# Altium footprint library amplifier.PcbLib: 49 footprints (part 3 of 4)
Each footprint in its own frame and in the unit in brackets; x right, y up, seen from the top. Pads: shape width x height; smd on the part's side, far side on the other; paste and mask are expansions set on the pad; w line width, h text height; cw(c..) or ccw(c..) is an arc to the next point about the centre after c.
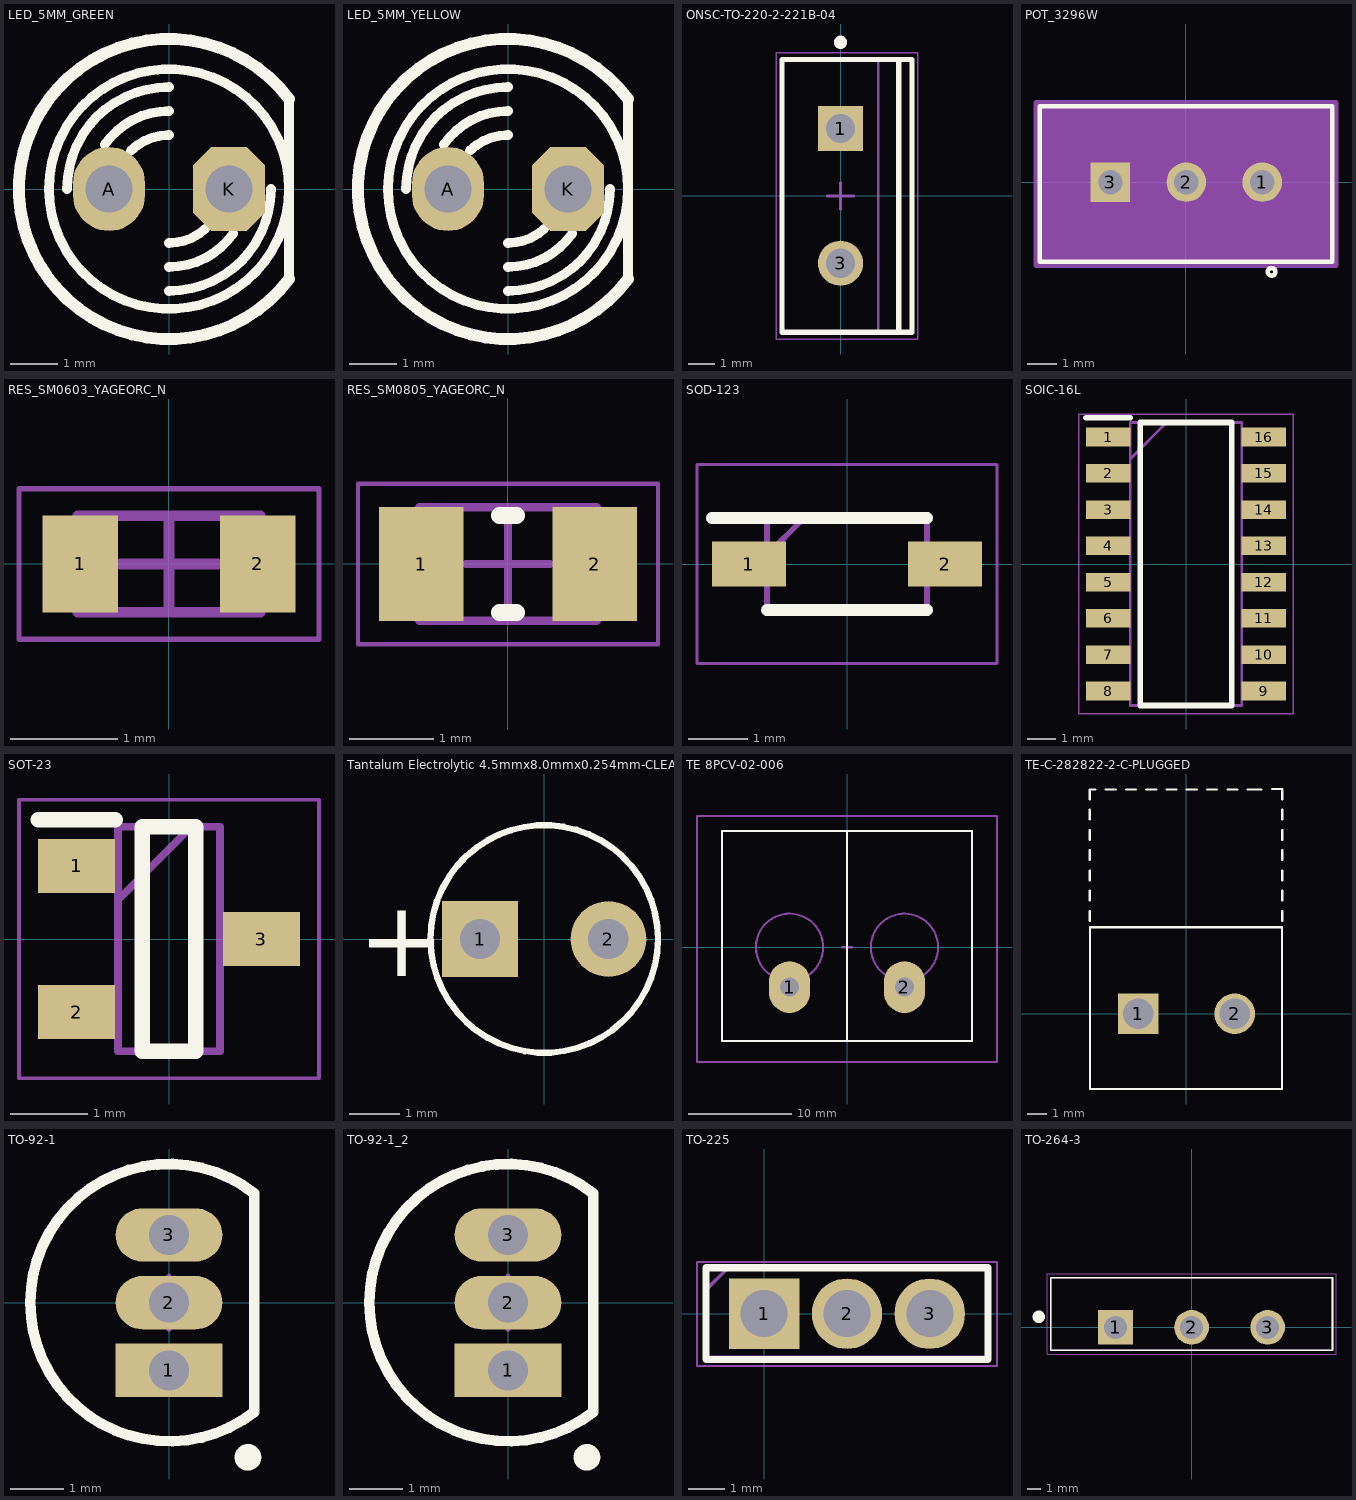
[diagram p2: the footprints below, top view; thin cyan lines are the x and y axes]

## LED_5MM_GREEN [mil]
pads (2):
  oval 60x70 hole 39.37: A(-50,0)
  oct 60x70 hole 39.37: K(50,0)
Top Overlay:
  circle w8: c0,0 r100
  lines w8: -85,0 cw(c0,0) 0,85 ; -53.4,37.06 cw(c0,0) 0,65 ; -31.82,31.82 cw(c0,0) 0,45 ; 0,-85 ccw(c0,0) 85,0 ; 0,-65 ccw(c0,0) 53.4,-37.06 ; 0,-45 ccw(c0,0) 30.32,-33.25 ; 100,-75 100,75
  lines w10: 100,-75 cw(c0,0) 100,75
3D body "LED-5mm-GREEN.step": height 352.16, standoff -255.91, extent -122.27,-119 94.27,117.22

## LED_5MM_YELLOW [mil]
pads (2):
  oval 60x70 hole 39.37: A(-50,0)
  oct 60x70 hole 39.37: K(50,0)
Top Overlay:
  circle w8: c0,0 r100
  lines w8: -85,0 cw(c0,0) 0,85 ; -53.4,37.06 cw(c0,0) 0,65 ; -31.82,31.82 cw(c0,0) 0,45 ; 0,-85 ccw(c0,0) 85,0 ; 0,-65 ccw(c0,0) 53.4,-37.06 ; 0,-45 ccw(c0,0) 30.32,-33.25 ; 100,-75 100,75
  lines w10: 100,-75 cw(c0,0) 100,75
3D body "LED-5mm-YELLOW.step": height 352.16, standoff -255.91, extent -118.11,-118.11 98.43,118.11

## ONSC-TO-220-2-221B-04 [mm]
pads (2):
  rect 1.7x1.7 hole 1.1: 1(0,2.54)
  round 1.7 hole 1.1: 3(0,-2.54)
Top Overlay:
  circle w0.25: c0,5.8 r0.125
  lines w0.2: 2.195,-5.15 2.195,5.15 ; -2.205,-5.15 2.695,-5.15 2.695,5.15 -2.205,5.15 -2.205,-5.15
Mechanical 13:
  lines w0.1: 1.42,-5.15 1.42,5.15 ; -2.18,-5.15 -2.18,5.15 2.67,5.15 2.67,-5.15 -2.18,-5.15
Mechanical 15:
  lines w0.05: -2.43,-5.4 -2.43,5.4 2.92,5.4 2.92,-5.4 -2.43,-5.4
  lines w0.1: -0.5,0 0.5,0 ; 0,-0.5 0,0.5
3D body: height 2.79, standoff 0, extent -0.25,1.875 0.25,3.205
3D body: height 0, standoff -1.6, extent -0.25,2.13 0.25,2.95
3D body: height 2.79, standoff 0, extent -0.25,-3.205 0.25,-1.875
3D body: height 0, standoff -1.6, extent -0.25,-2.95 0.25,-2.13
3D body: height 12.8, standoff 2.79, extent -2.18,-5.15 2.67,5.15
3D body: height 14.33, standoff 12.8, extent 1.42,-4.975 2.67,4.975
3D body: height 14.37, standoff 14.33, extent 1.42,0.376 2.67,4.975
3D body: height 14.37, standoff 14.33, extent 1.42,-4.975 2.67,-0.376
3D body: height 18.18, standoff 18.14, extent 1.42,0.376 2.67,4.975
3D body: height 18.18, standoff 18.14, extent 1.42,-4.975 2.67,-0.376
3D body: height 14.48, standoff 14.36, extent 1.42,0.737 2.67,4.975
3D body: height 14.48, standoff 14.36, extent 1.42,-4.975 2.67,-0.737
3D body: height 18.14, standoff 18.03, extent 1.42,0.737 2.67,4.975
3D body: height 18.14, standoff 18.03, extent 1.42,-4.975 2.67,-0.737
3D body: height 14.65, standoff 14.47, extent 1.42,1.069 2.67,4.975
3D body: height 14.65, standoff 14.47, extent 1.42,-4.975 2.67,-1.069
3D body: height 18.03, standoff 17.85, extent 1.42,1.069 2.67,4.975
3D body: height 18.03, standoff 17.85, extent 1.42,-4.975 2.67,-1.069
3D body: height 14.89, standoff 14.65, extent 1.42,1.361 2.67,4.975
3D body: height 14.89, standoff 14.65, extent 1.42,-4.975 2.67,-1.361
3D body: height 17.86, standoff 17.61, extent 1.42,1.361 2.67,4.975
3D body: height 17.86, standoff 17.61, extent 1.42,-4.975 2.67,-1.361
3D body: height 15.19, standoff 14.89, extent 1.42,1.601 2.67,4.975
3D body: height 15.19, standoff 14.89, extent 1.42,-4.975 2.67,-1.601
3D body: height 17.62, standoff 17.32, extent 1.42,1.601 2.67,4.975
3D body: height 17.62, standoff 17.32, extent 1.42,-4.975 2.67,-1.601
3D body: height 15.52, standoff 15.18, extent 1.42,1.778 2.67,4.975
3D body: height 15.52, standoff 15.18, extent 1.42,-4.975 2.67,-1.778
3D body: height 17.32, standoff 16.99, extent 1.42,1.778 2.67,4.975
3D body: height 17.32, standoff 16.99, extent 1.42,-4.975 2.67,-1.778
3D body: height 15.88, standoff 15.51, extent 1.42,1.888 2.67,4.975
3D body: height 15.88, standoff 15.51, extent 1.42,-4.975 2.67,-1.888
3D body: height 16.99, standoff 16.63, extent 1.42,1.888 2.67,4.975
3D body: height 16.99, standoff 16.63, extent 1.42,-4.975 2.67,-1.888
3D body: height 16.25, standoff 15.87, extent 1.42,1.925 2.67,4.975
3D body: height 16.25, standoff 15.87, extent 1.42,-4.975 2.67,-1.925
3D body: height 16.63, standoff 16.25, extent 1.42,1.925 2.67,4.975
3D body: height 16.63, standoff 16.25, extent 1.42,-4.975 2.67,-1.925
3D body: height 19.05, standoff 18.18, extent 1.42,-4.975 2.67,4.975

## POT_3296W [mil]
pads (3):
  round 52 / inner round 60 / far side round 52 hole 32: 1(101,0) 2(1,0)
  rect 52x52 / inner round 60 / far side rect 52x52 hole 32: 3(-99,0)
Top Overlay:
  circle w6: c113.19,-118.11 r5
  lines w6: -192,-105 -192,100 193,100 193,-105 -192,-105
Mechanical 13:
  circle w0: c-137,45 r40
  circle w0: c112.5,-80 r5
Mechanical 15:
  region: 198,-110 -197,-110 -197,105 198,105
  lines w6: -197,-110 198,-110 198,105 -197,105 -197,-110
3D body "POT_3296W-colored.stp": height 453.7, standoff -253.3, extent -187.5,-96.5 187.5,93.5
3D body: height 0, standoff 0, extent 100,-5 110,5

## RES_SM0603_YAGEORC_N [mm]
pads (2):
  rect 0.7x0.9 smd: 1(-0.827,0) 2(0.827,0)
Mechanical 13:
  lines w0.1: -0.85,-0.45 0.85,-0.45 0.85,0.45 -0.85,0.45 -0.85,-0.45
Mechanical 15:
  lines w0.05: -1.397,-0.7 1.397,-0.7 1.397,0.7 -1.397,0.7 -1.397,-0.7
  lines w0.1: -0.45,0 0.45,0 ; 0,-0.45 0,0.45
3D body "RESC-0603.stp": height 0.55, standoff 0, extent -0.85,-0.45 0.85,0.45

## RES_SM0805_YAGEORC_N [mm]
pads (2):
  rect 1x1.35 smd: 1(-1.027,0) 2(1.027,0)
Top Overlay:
  lines w0.2: -0.1,-0.575 0.1,-0.575 ; -0.1,0.575 0.1,0.575
Mechanical 13:
  lines w0.1: -1.05,-0.675 -1.05,0.675 1.05,0.675 1.05,-0.675 -1.05,-0.675
Mechanical 15:
  lines w0.05: -1.778,-0.95 -1.778,0.95 1.778,0.95 1.778,-0.95 -1.778,-0.95
  lines w0.1: -0.5,0 0.5,0 ; 0,-0.5 0,0.5
3D body: height 0.55, standoff 0, extent 0,0 0,0
3D body "RESC-0805.stp": height 0.6, standoff 0, extent -1.05,-0.675 1.05,0.675

## SOD-123 [mm]
pads (2):
  rect 1.25x0.75 smd: 1(-1.65,0) 2(1.65,0)
Top Overlay:
  lines w0.2: -2.275,0.775 1.35,0.775 ; -1.35,-0.775 1.35,-0.775
Mechanical 13:
  lines w0.1: -1.35,0.15 -0.725,0.775 ; -1.35,-0.775 1.35,-0.775 1.35,0.775 -1.35,0.775 -1.35,-0.775
Mechanical 15:
  lines w0.05: -2.525,-1.675 2.525,-1.675 2.525,1.675 -2.525,1.675 -2.525,-1.675
3D body "SOD-123.step": height 1.2, standoff 0, extent -1.875,-0.85 1.875,0.85

## SOIC-16L [mm]
pads (16):
  rect 1.55x0.65 smd: 1(-2.725,4.445) 2(-2.725,3.175) 3(-2.725,1.905) 4(-2.725,0.635) 5(-2.725,-0.635) 6(-2.725,-1.905) 7(-2.725,-3.175) 8(-2.725,-4.445) 9(2.725,-4.445) 10(2.725,-3.175) 11(2.725,-1.905) 12(2.725,-0.635) 13(2.725,0.635) 14(2.725,1.905) 15(2.725,3.175) 16(2.725,4.445)
Top Overlay:
  lines w0.2: -3.5,5.12 -1.95,5.12 ; -1.6,-4.95 -1.6,4.95 1.6,4.95 1.6,-4.95 -1.6,-4.95
Mechanical 13:
  lines w0.1: -1.95,3.68 -0.68,4.95 ; -1.95,-4.95 -1.95,4.95 1.95,4.95 1.95,-4.95 -1.95,-4.95
Mechanical 15:
  lines w0.05: -3.75,-5.25 -3.75,5.25 3.75,5.25 3.75,-5.25 -3.75,-5.25
3D body "MMPQ6700.stp": height 1.75, standoff 0, extent -3,-4.95 3,4.95

## SOT-23 [mm]
pads (3):
  rect 1x0.7 smd: 1(-1.2,0.95) 2(-1.2,-0.95) 3(1.2,0)
Top Overlay:
  lines w0.2: -1.7,1.55 -0.7,1.55 ; -0.35,-1.46 -0.35,1.46 0.35,1.46 0.35,-1.46 -0.35,-1.46
Mechanical 13:
  lines w0.1: -0.662,0.51 0.288,1.46 ; -0.662,-1.46 -0.662,1.46 0.662,1.46 0.662,-1.46 -0.662,-1.46
Mechanical 15:
  lines w0.05: -1.95,-1.81 -1.95,1.81 1.95,1.81 1.95,-1.81 -1.95,-1.81
3D body "SOT-23-3.stp": height 1.1, standoff -0.08, extent -1.418,-1.5 1.418,1.5

## Tantalum Electrolytic 4.5mmx8.0mmx0.254mm-CLEAN [mm]
pads (2):
  rect 1.5x1.5 hole 0.8: 1(-1.27,0)
  round 1.5 hole 0.8: 2(1.27,0)
Top Overlay:
  lines w0.127: 2.25,0 cw(c0,0) 2.25,0.005
  text "+" at -3.683,-0.737 h1.5
3D body "User Library-CAP_TANT_0_1.step": height 8.5, standoff -2.5, extent -2.174,-2.174 2.174,2.174

## TE 8PCV-02-006 [mm]
pads (2):
  oval 4x5 hole 1.829: 1(-5.555,-3.85) 2(5.555,-3.85)
Top Overlay:
  lines w0.2: 0,-9.05 0,11.25 ; 12.1,11.225 12.1,-9.05 -12.075,-9.05 -12.075,11.25 12.1,11.25
Mechanical 1:
  circle w0.2: c5.555,0 r3.25
  circle w0.2: c-5.555,0 r3.25
  lines w0.2: -12.075,-9.05 -12.075,11.225 -10.074,11.225 -6.162,11.225 -4.205,11.225 12.075,11.225 12.075,-9.05 -6.38,-9.05 -12.075,-9.05
Mechanical 15:
  lines w0.2: -0.5,0 0.5,0 ; 0,-0.5 0,0.5 ; -14.5,-11.075 -14.5,12.675 14.5,12.675 14.5,-11.075 -14.5,-11.075
3D body "8PCV-02-006-colored.stp": height 19.58, standoff -4.68, extent -12.004,-9.06 12.075,11.26

## TE-C-282822-2-C-PLUGGED [mm]
pads (2):
  rect 2.1x2.1 hole 1.6: 1(-2.5,0)
  round 2.1 hole 1.6: 2(2.5,0)
Top Overlay:
  lines w0.127: -5.025,4.825 -5.025,5.325 ; -5.025,5.875 -5.025,6.375 ; -5.025,6.925 -5.025,7.425 ; -5.025,7.975 -5.025,8.475 ; -5.025,9.025 -5.025,9.525 ; -5.025,10.075 -5.025,10.575 ; -5.025,11.125 -5.025,11.625 -4.725,11.625 ; -4.175,11.625 -3.675,11.625 ; -3.125,11.625 -2.625,11.625 ; -2.075,11.625 -1.575,11.625 ; -1.025,11.625 -0.525,11.625 ; 0.025,11.625 0.525,11.625 ; 1.075,11.625 1.575,11.625 ; 2.125,11.625 2.625,11.625 ; 3.175,11.625 3.675,11.625 ; 3.375,11.625 3.875,11.625 ; 4.45,11.65 4.975,11.65 4.975,11.125 ; 4.975,4.825 4.975,5.325 ; 4.975,5.875 4.975,6.375 ; 4.975,6.925 4.975,7.425 ; 4.975,7.975 4.975,8.475 ; 4.975,9.025 4.975,9.525 ; 4.975,10.075 4.975,10.575 ; -5,-3.9 -5,3.075 -5,4.475 4.95,4.475 4.95,-3.9 -5,-3.9
3D body "c-796640-2-e-3d-colored.stp": height 18.43, standoff 0.03, extent -5.025,-3.875 4.975,11.625
3D body "c-282822-2-c-3d-colored.stp": height 12.03, standoff -3.47, extent -5.025,-3.875 4.975,4.475

## TO-92-1 [mm]
pads (3):
  rect 2x1 hole 0.75: 1(0,-1.27)
  oval 2x1 hole 0.75: 2(0,0) 3(0,1.27)
Top Overlay:
  circle w0.25: c1.48,-2.9 r0.125
  lines w0.2: 1.601,-2.049 cw(c0,0) 1.601,2.049 1.6,-2.049
Mechanical 13:
  lines w0.1: 1.601,-2.049 cw(c0,0) 1.601,2.049 1.6,-2.049
Mechanical 15:
  lines w0.1: -0.5,0 0.5,0 ; 0,-0.5 0,0.5
3D body "TO-92-1.step": height 6.47, standoff -6.03, extent -2.494,-2.515 1.376,2.484

## TO-92-1_2 [mm]
pads (3):
  rect 2x1 hole 0.75: 1(0,-1.27)
  oval 2x1 hole 0.75: 2(0,0) 3(0,1.27)
Top Overlay:
  circle w0.25: c1.48,-2.9 r0.125
  lines w0.2: 1.601,-2.049 cw(c0,0) 1.601,2.049 1.6,-2.049
Mechanical 13:
  lines w0.1: 1.601,-2.049 cw(c0,0) 1.601,2.049 1.6,-2.049
Mechanical 15:
  lines w0.1: -0.5,0 0.5,0 ; 0,-0.5 0,0.5
3D body "TO-92-1.step": height 6.47, standoff -6.03, extent -2.494,-2.515 1.376,2.484

## TO-225 [mm]
pads (3):
  rect 1.95x1.95 hole 1.3: 1(0,0)
  round 1.95 hole 1.3: 2(2.29,0) 3(4.58,0)
Top Overlay:
  lines w0.2: -1.61,-1.27 -1.61,1.27 6.19,1.27 6.19,-1.27 -1.61,-1.27
Mechanical 13:
  lines w0.1: -1.61,0.66 -1.008,1.262 ; -1.61,-1.21 6.19,-1.21 6.19,1.27 -1.61,1.27 -1.61,-1.21
Mechanical 15:
  lines w0.05: -1.86,-1.445 6.44,-1.445 6.44,1.43 -1.86,1.43 -1.86,-1.445
3D body "TO-225-1.step": height 12.5, standoff -12.91, extent -1.46,-1.21 6.04,1.21

## TO-264-3 [mm]
pads (3):
  rect 2.49x2.49 hole 1.66: 1(-5.45,0)
  round 2.49 hole 1.66: 2(0,0) 3(5.45,0)
Top Overlay:
  circle w0.5: c-10.95,0.756 r0.2
  lines w0.127: -10.1,-1.644 10.1,-1.644 10.1,3.556 -10.1,3.556 -10.1,-1.644
Mechanical 4:
  lines w0.127: -10.1,-1.644 10.1,-1.644 ; -10.1,-1.644 -10.1,3.556 ; -10.1,-1.644 10.1,-1.644 ; -10.1,-1.644 -10.1,3.556 ; -10.1,3.556 10.1,3.556 ; -10.1,3.556 10.1,3.556 ; 10.1,-1.644 10.1,3.556 ; 10.1,-1.644 10.1,3.556
Mechanical 16:
  lines w0.05: -10.35,-1.944 -10.35,3.856 10.35,3.856 10.35,-1.944 -10.35,-1.944
3D body "TO-264-3_Vertical.step": height 28.5, standoff -17.5, extent -10.1,-1.525 10.1,3.475
3D body: height 0.25, standoff 0, extent -2.783,9.525 -2.783,9.525